# EAGLE library part HEADER_J1 (library MICROCONTROLLER)
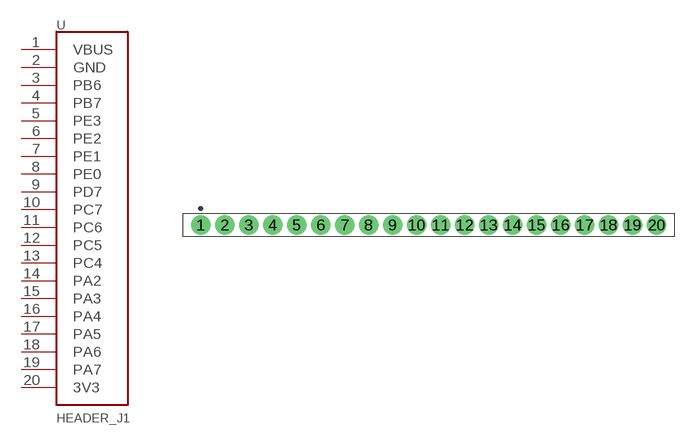
[diagram p3: symbol with the pads of HDRV20W80P254_1X20_5100X250X838B; footprint HDRV20W80P254_1X20_5100X250X838B]

Designator prefix -

## HEADER_J1  [HDRV20W80P254_1X20_5100X250X838B]
1  VBUS
2  GND
3  PB6
4  PB7
5  PE3
6  PE2
7  PE1
8  PE0
9  PD7
10  PC7
11  PC6
12  PC5
13  PC4
14  PA2
15  PA3
16  PA4
17  PA5
18  PA6
19  PA7
20  3V3

## Footprint HDRV20W80P254_1X20_5100X250X838B (pad centres in mm)
Single-row, 20-pin Pin Header (Male) Straight, 2.54 mm (0.10 in) col pitch, 5.84 mm mating length, 51.00 X 2.50 X 8.38 mm body Single-row (1X20), 20-pin Pin Header (Male) Straight package with 2.54 mm (0.10 in) col pitch, 0.80 mm lead width, 3.00 mm tail length and 5.84 mm mating length with overall size 51.00 X 2.50 X 8.38 mm, pin pattern - clockwise from top left
drill 1.143 pad 2.083: 1 0,0; 2 2.54,0; 3 5.08,0; 4 7.62,0; 5 10.16,0; 6 12.7,0; 7 15.24,0; 8 17.78,0; 9 20.32,0; 10 22.86,0; 11 25.4,0; 12 27.94,0; 13 30.48,0; 14 33.02,0; 15 35.56,0; 16 38.1,0; 17 40.64,0; 18 43.18,0; 19 45.72,0; 20 48.26,0